# EAGLE library part MAX6675 (library custom)
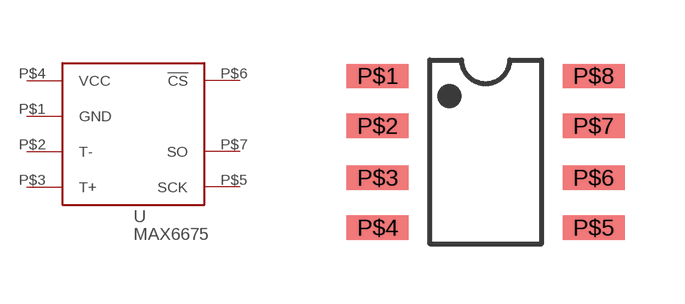
[diagram p7: symbol with the pads of SOIC_8N; footprint SOIC_8N]

Designator prefix -

## MAX6675  [SOIC_8N]
P$1  GND  pwr
P$2  T-  in
P$3  T+  in
P$4  VCC  in
P$5  SCK  in
P$6  !CS  in
P$7  SO  hiz

## Footprint SOIC_8N (pad centres in mm)
smd 1.55 x 0.6: P$1 -2.7,1.9; P$2 -2.7,0.65; P$3 -2.7,-0.65; P$4 -2.7,-1.9; P$5 2.7,-1.9; P$6 2.7,-0.65; P$7 2.7,0.65; P$8 2.7,1.9